# EAGLE library part INA4180A4IPWR (library milliLearn-ice40)
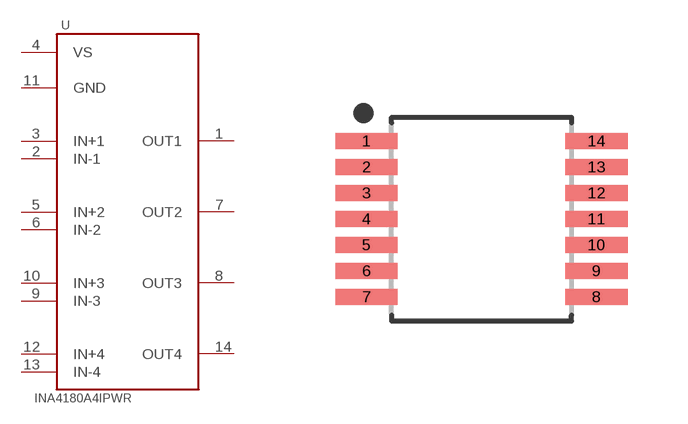
[diagram p8: symbol with the pads of INA4180A4IPWR; footprint INA4180A4IPWR]

Designator prefix U

## INA4180A4IPWR (MFR: TI; MFR_PN: INA4180A4IPWR)  [INA4180A4IPWR]
1  OUT1
2  IN-1
3  IN+1
4  VS
5  IN+2
6  IN-2
7  OUT2
8  OUT3
9  IN-3
10  IN+3
11  GND
12  IN+4
13  IN-4
14  OUT4

## Footprint INA4180A4IPWR (pad centres in mm)
14-SOP, 0.65 mm pitch, 6.40 mm span, 5.00 X 4.40 X 1.20 mm body 14-pin SOP package with 0.65 mm pitch, 6.40 mm span with body size 5.00 X 4.40 X 1.20 mm
smd 1.559 x 0.407: 1 -2.878,1.95; 2 -2.878,1.3; 3 -2.878,0.65; 4 -2.878,0; 5 -2.878,-0.65; 6 -2.878,-1.3; 7 -2.878,-1.95; 8 2.878,-1.95; 9 2.878,-1.3; 10 2.878,-0.65; 11 2.878,0; 12 2.878,0.65; 13 2.878,1.3; 14 2.878,1.95